# Altium schematic symbol library DSPIC33CK64MP102-I_SS.SchLib: 1 symbol
Pins are listed as number, name and electrical type; pins without a type are passive.

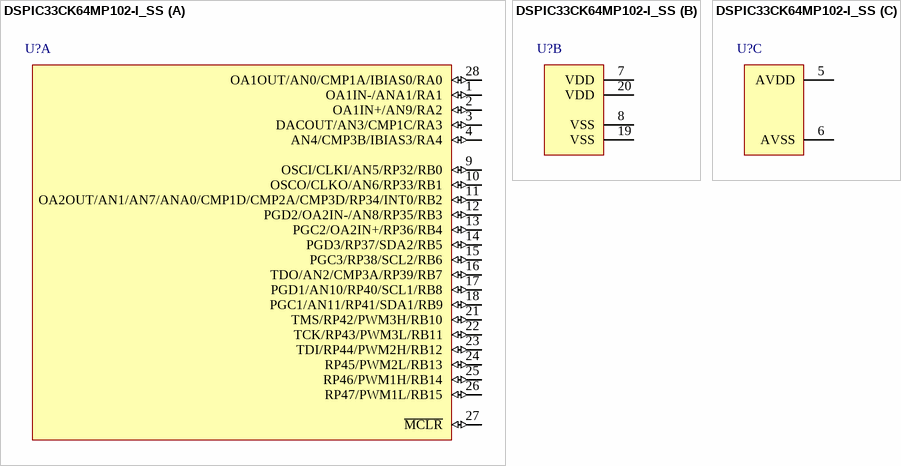
[diagram p0: symbol DSPIC33CK64MP102-I_SS]

## DSPIC33CK64MP102-I_SS
designator U?
part A pins: 1 OA1IN-/ANA1/RA1 (io), 2 OA1IN+/AN9/RA2 (io), 3 DACOUT/AN3/CMP1C/RA3 (io), 4 AN4/CMP3B/IBIAS3/RA4 (io), 9 OSCI/CLKI/AN5/RP32/RB0 (io), 10 OSCO/CLKO/AN6/RP33/RB1 (io), 11 OA2OUT/AN1/AN7/ANA0/CMP1D/CMP2A/CMP3D/RP34/INT0/RB2 (io), 12 PGD2/OA2IN-/AN8/RP35/RB3 (io), 13 PGC2/OA2IN+/RP36/RB4 (io), 14 PGD3/RP37/SDA2/RB5 (io), 15 PGC3/RP38/SCL2/RB6 (io), 16 TDO/AN2/CMP3A/RP39/RB7 (io), 17 PGD1/AN10/RP40/SCL1/RB8 (io), 18 PGC1/AN11/RP41/SDA1/RB9 (io), 21 TMS/RP42/PWM3H/RB10 (io), 22 TCK/RP43/PWM3L/RB11 (io), 23 TDI/RP44/PWM2H/RB12 (io), 24 RP45/PWM2L/RB13 (io), 25 RP46/PWM1H/RB14 (io), 26 RP47/PWM1L/RB15 (io), 27 ~{MCLR} (io), 28 OA1OUT/AN0/CMP1A/IBIAS0/RA0 (io)
part B pins: 7 VDD (power), 8 VSS (power), 19 VSS (power), 20 VDD (power)
part C pins: 5 AVDD (power), 6 AVSS (power)